# Altium footprint library SUPERSEAL 26POS 2ROW.PcbLib: 1 footprints
Each footprint in its own frame and in the unit in brackets; x right, y up, seen from the top. Pads: shape width x height; smd on the part's side, far side on the other; paste and mask are expansions set on the pad; w line width, h text height; cw(c..) or ccw(c..) is an arc to the next point about the centre after c.
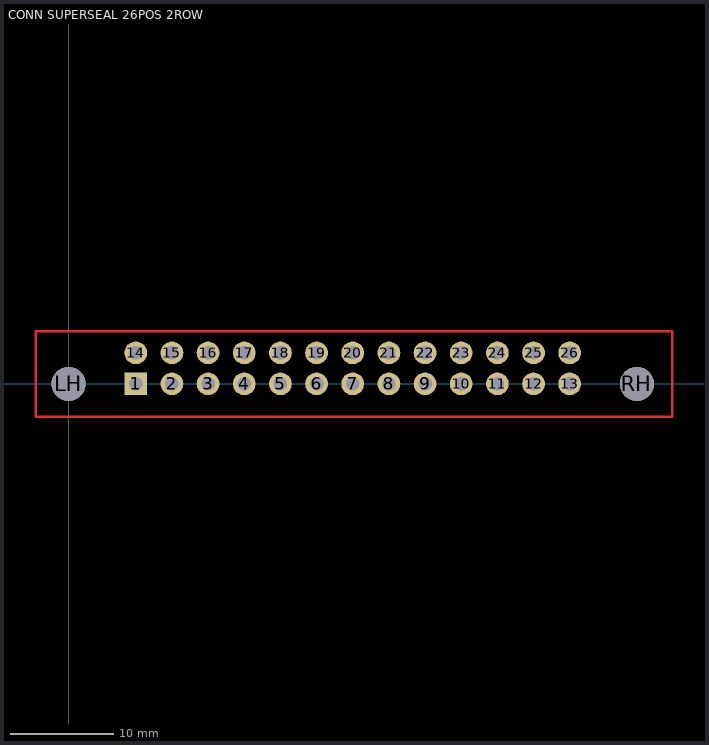
[diagram p0: the footprint, top view; thin cyan lines are the x and y axes]

## CONN SUPERSEAL 26POS 2ROW [mm]
pads (28):
  rect 2.2x2.2 hole 1.3: 1(6.5,0)
  round 2.2 hole 1.3: 2(10,0) 3(13.5,0) 4(17,0) 5(20.5,0) 6(24,0) 7(27.5,0) 8(31,0) 9(34.5,0) 10(38,0) 11(41.5,0) 12(45,0) 13(48.5,0) 14(6.5,3) 15(10,3) 16(13.5,3) 17(17,3) 18(20.5,3) 19(24,3) 20(27.5,3) 21(31,3) 22(34.5,3) 23(38,3) 24(41.5,3) 25(45,3) 26(48.5,3)
  round 3.3 hole 3.3 unplated: LH(0,0) RH(55,0)
Top Layer:
  lines w0.254: -3.175,-3.175 -3.175,5.08 58.42,5.08 58.42,-3.175 -3.175,-3.175
  text "SUPERSEAL 26POS" at -3.175,6.223 h1.52